# Altium schematic symbol library MCU_ST_STM32C0.SchLib: 57 symbols
Pins are listed as number, name and electrical type; pins without a type are passive.

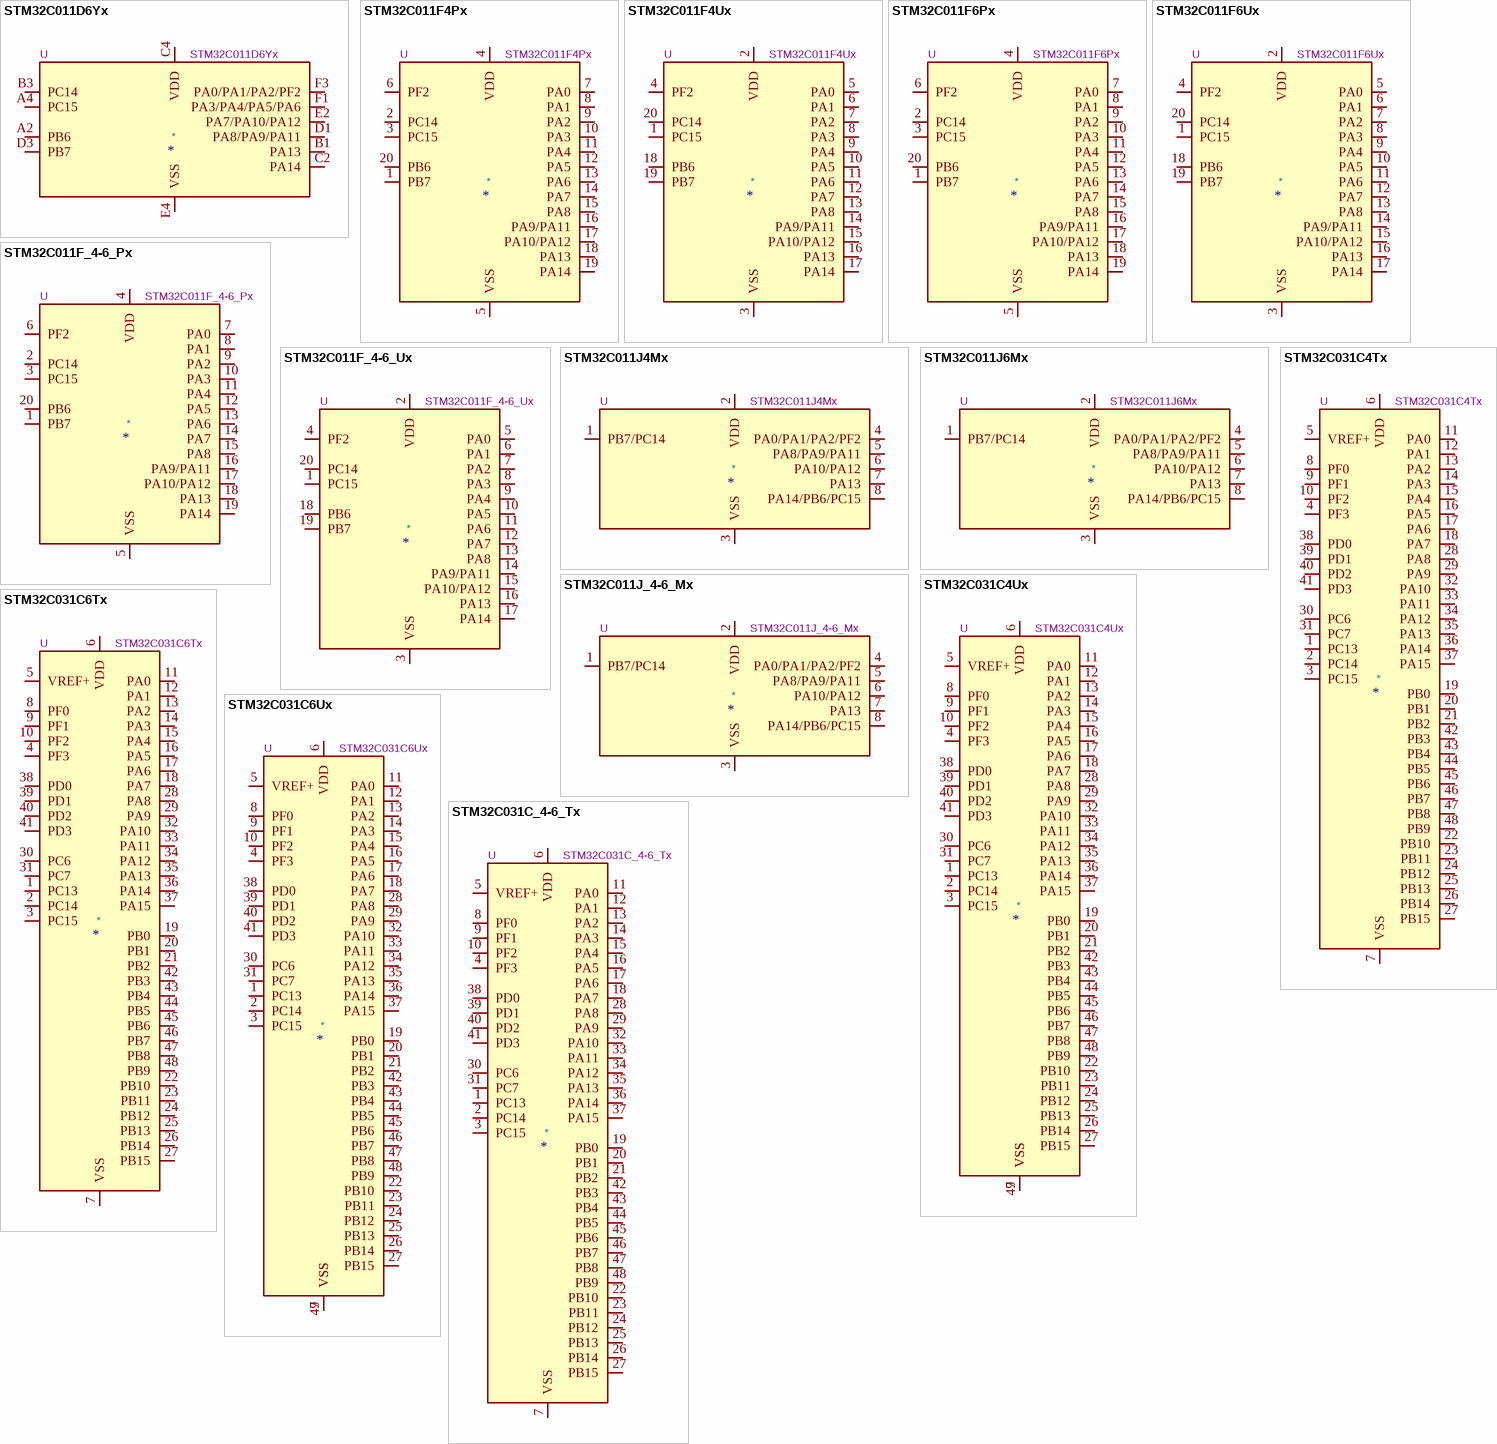
[diagram p0: symbols STM32C011D6Yx to STM32C031C_4-6_Tx]

## STM32C011D6Yx
designator *  value STM32C011D6Yx  Reference: U
STMicroelectronics Arm Cortex-M0+ MCU, 32KB flash, 6KB RAM, 48 MHz, 2.0-3.6V, 10 GPIO, WLCSP12; ki_keywords: Arm Cortex-M0+ STM32C0 STM32C0x1; ki_fp_filters: ST*WLCSP*1.7x1.42mm*Layout4x6*P0.35mm*Stagger*; Footprint: Package_CSP:ST_WLCSP-12_1.7x1.42mm_Layout4x6_P0.35mm_Stagger; Datasheet: https://www.st.com/resource/en/datasheet/stm32c011d6.pdf; Description_: STMicroelectronics Arm Cortex-M0+ MCU, 32KB flash, 6KB RAM, 48 MHz, 2.0-3.6V, 10 GPIO, WLCSP12
pins: A2 PB6, A4 PC15, B1 PA13, B3 PC14, C2 PA14, C4 VDD, D1 PA8/PA9/PA11, D3 PB7, E2 PA7/PA10/PA12, E4 VSS, F1 PA3/PA4/PA5/PA6, F3 PA0/PA1/PA2/PF2

## STM32C011F4Px
designator *  value STM32C011F4Px  Reference: U
STMicroelectronics Arm Cortex-M0+ MCU, 16KB flash, 6KB RAM, 48 MHz, 2.0-3.6V, 18 GPIO, TSSOP20; ki_keywords: Arm Cortex-M0+ STM32C0 STM32C0x1; ki_fp_filters: TSSOP*4.4x6.5mm*P0.65mm*; Footprint: Package_SO:TSSOP-20_4.4x6.5mm_P0.65mm; Datasheet: https://www.st.com/resource/en/datasheet/stm32c011f4.pdf; Description_: STMicroelectronics Arm Cortex-M0+ MCU, 16KB flash, 6KB RAM, 48 MHz, 2.0-3.6V, 18 GPIO, TSSOP20
pins: 1 PB7, 2 PC14, 3 PC15, 4 VDD, 5 VSS, 6 PF2, 7 PA0, 8 PA1, 9 PA2, 10 PA3, 11 PA4, 12 PA5, 13 PA6, 14 PA7, 15 PA8, 16 PA9/PA11, 17 PA10/PA12, 18 PA13, 19 PA14, 20 PB6

## STM32C011F4Ux
designator *  value STM32C011F4Ux  Reference: U
STMicroelectronics Arm Cortex-M0+ MCU, 16KB flash, 6KB RAM, 48 MHz, 2.0-3.6V, 18 GPIO, UFQFPN20; ki_keywords: Arm Cortex-M0+ STM32C0 STM32C0x1; ki_fp_filters: ST*UFQFPN*3x3mm*P0.5mm*; Footprint: Package_DFN_QFN:ST_UFQFPN-20_3x3mm_P0.5mm; Datasheet: https://www.st.com/resource/en/datasheet/stm32c011f4.pdf; Description_: STMicroelectronics Arm Cortex-M0+ MCU, 16KB flash, 6KB RAM, 48 MHz, 2.0-3.6V, 18 GPIO, UFQFPN20
pins: 1 PC15, 2 VDD, 3 VSS, 4 PF2, 5 PA0, 6 PA1, 7 PA2, 8 PA3, 9 PA4, 10 PA5, 11 PA6, 12 PA7, 13 PA8, 14 PA9/PA11, 15 PA10/PA12, 16 PA13, 17 PA14, 18 PB6, 19 PB7, 20 PC14

## STM32C011F6Px
designator *  value STM32C011F6Px  Reference: U
STMicroelectronics Arm Cortex-M0+ MCU, 32KB flash, 6KB RAM, 48 MHz, 2.0-3.6V, 18 GPIO, TSSOP20; ki_keywords: Arm Cortex-M0+ STM32C0 STM32C0x1; ki_fp_filters: TSSOP*4.4x6.5mm*P0.65mm*; Footprint: Package_SO:TSSOP-20_4.4x6.5mm_P0.65mm; Datasheet: https://www.st.com/resource/en/datasheet/stm32c011f6.pdf; Description_: STMicroelectronics Arm Cortex-M0+ MCU, 32KB flash, 6KB RAM, 48 MHz, 2.0-3.6V, 18 GPIO, TSSOP20
pins: 1 PB7, 2 PC14, 3 PC15, 4 VDD, 5 VSS, 6 PF2, 7 PA0, 8 PA1, 9 PA2, 10 PA3, 11 PA4, 12 PA5, 13 PA6, 14 PA7, 15 PA8, 16 PA9/PA11, 17 PA10/PA12, 18 PA13, 19 PA14, 20 PB6

## STM32C011F6Ux
designator *  value STM32C011F6Ux  Reference: U
STMicroelectronics Arm Cortex-M0+ MCU, 32KB flash, 6KB RAM, 48 MHz, 2.0-3.6V, 18 GPIO, UFQFPN20; ki_keywords: Arm Cortex-M0+ STM32C0 STM32C0x1; ki_fp_filters: ST*UFQFPN*3x3mm*P0.5mm*; Footprint: Package_DFN_QFN:ST_UFQFPN-20_3x3mm_P0.5mm; Datasheet: https://www.st.com/resource/en/datasheet/stm32c011f6.pdf; Description_: STMicroelectronics Arm Cortex-M0+ MCU, 32KB flash, 6KB RAM, 48 MHz, 2.0-3.6V, 18 GPIO, UFQFPN20
pins: 1 PC15, 2 VDD, 3 VSS, 4 PF2, 5 PA0, 6 PA1, 7 PA2, 8 PA3, 9 PA4, 10 PA5, 11 PA6, 12 PA7, 13 PA8, 14 PA9/PA11, 15 PA10/PA12, 16 PA13, 17 PA14, 18 PB6, 19 PB7, 20 PC14

## STM32C011F_4-6_Px
designator *  value STM32C011F_4-6_Px  Reference: U
STMicroelectronics Arm Cortex-M0+ MCU, 16-32KB flash, 6KB RAM, 48 MHz, 2.0-3.6V, 18 GPIO, TSSOP20; ki_keywords: Arm Cortex-M0+ STM32C0 STM32C0x1; ki_fp_filters: TSSOP*4.4x6.5mm*P0.65mm*; Footprint: Package_SO:TSSOP-20_4.4x6.5mm_P0.65mm; Datasheet: https://www.st.com/resource/en/datasheet/stm32c011f4.pdf; Description_: STMicroelectronics Arm Cortex-M0+ MCU, 16-32KB flash, 6KB RAM, 48 MHz, 2.0-3.6V, 18 GPIO, TSSOP20
pins: 1 PB7, 2 PC14, 3 PC15, 4 VDD, 5 VSS, 6 PF2, 7 PA0, 8 PA1, 9 PA2, 10 PA3, 11 PA4, 12 PA5, 13 PA6, 14 PA7, 15 PA8, 16 PA9/PA11, 17 PA10/PA12, 18 PA13, 19 PA14, 20 PB6

## STM32C011F_4-6_Ux
designator *  value STM32C011F_4-6_Ux  Reference: U
STMicroelectronics Arm Cortex-M0+ MCU, 16-32KB flash, 6KB RAM, 48 MHz, 2.0-3.6V, 18 GPIO, UFQFPN20; ki_keywords: Arm Cortex-M0+ STM32C0 STM32C0x1; ki_fp_filters: ST*UFQFPN*3x3mm*P0.5mm*; Footprint: Package_DFN_QFN:ST_UFQFPN-20_3x3mm_P0.5mm; Datasheet: https://www.st.com/resource/en/datasheet/stm32c011f4.pdf; Description_: STMicroelectronics Arm Cortex-M0+ MCU, 16-32KB flash, 6KB RAM, 48 MHz, 2.0-3.6V, 18 GPIO, UFQFPN20
pins: 1 PC15, 2 VDD, 3 VSS, 4 PF2, 5 PA0, 6 PA1, 7 PA2, 8 PA3, 9 PA4, 10 PA5, 11 PA6, 12 PA7, 13 PA8, 14 PA9/PA11, 15 PA10/PA12, 16 PA13, 17 PA14, 18 PB6, 19 PB7, 20 PC14

## STM32C011J4Mx
designator *  value STM32C011J4Mx  Reference: U
STMicroelectronics Arm Cortex-M0+ MCU, 16KB flash, 6KB RAM, 48 MHz, 2.0-3.6V, 6 GPIO, SO8N; ki_keywords: Arm Cortex-M0+ STM32C0 STM32C0x1; ki_fp_filters: SO*3.9x4.9mm*P1.27mm*; Footprint: Package_SO:SOIC-8_3.9x4.9mm_P1.27mm; Datasheet: https://www.st.com/resource/en/datasheet/stm32c011j4.pdf; Description_: STMicroelectronics Arm Cortex-M0+ MCU, 16KB flash, 6KB RAM, 48 MHz, 2.0-3.6V, 6 GPIO, SO8N
pins: 1 PB7/PC14, 2 VDD, 3 VSS, 4 PA0/PA1/PA2/PF2, 5 PA8/PA9/PA11, 6 PA10/PA12, 7 PA13, 8 PA14/PB6/PC15

## STM32C011J6Mx
designator *  value STM32C011J6Mx  Reference: U
STMicroelectronics Arm Cortex-M0+ MCU, 32KB flash, 6KB RAM, 48 MHz, 2.0-3.6V, 6 GPIO, SO8N; ki_keywords: Arm Cortex-M0+ STM32C0 STM32C0x1; ki_fp_filters: SO*3.9x4.9mm*P1.27mm*; Footprint: Package_SO:SOIC-8_3.9x4.9mm_P1.27mm; Datasheet: https://www.st.com/resource/en/datasheet/stm32c011j6.pdf; Description_: STMicroelectronics Arm Cortex-M0+ MCU, 32KB flash, 6KB RAM, 48 MHz, 2.0-3.6V, 6 GPIO, SO8N
pins: 1 PB7/PC14, 2 VDD, 3 VSS, 4 PA0/PA1/PA2/PF2, 5 PA8/PA9/PA11, 6 PA10/PA12, 7 PA13, 8 PA14/PB6/PC15

## STM32C011J_4-6_Mx
designator *  value STM32C011J_4-6_Mx  Reference: U
STMicroelectronics Arm Cortex-M0+ MCU, 16-32KB flash, 6KB RAM, 48 MHz, 2.0-3.6V, 6 GPIO, SO8N; ki_keywords: Arm Cortex-M0+ STM32C0 STM32C0x1; ki_fp_filters: SO*3.9x4.9mm*P1.27mm*; Footprint: Package_SO:SOIC-8_3.9x4.9mm_P1.27mm; Datasheet: https://www.st.com/resource/en/datasheet/stm32c011j4.pdf; Description_: STMicroelectronics Arm Cortex-M0+ MCU, 16-32KB flash, 6KB RAM, 48 MHz, 2.0-3.6V, 6 GPIO, SO8N
pins: 1 PB7/PC14, 2 VDD, 3 VSS, 4 PA0/PA1/PA2/PF2, 5 PA8/PA9/PA11, 6 PA10/PA12, 7 PA13, 8 PA14/PB6/PC15

## STM32C031C4Tx
designator *  value STM32C031C4Tx  Reference: U
STMicroelectronics Arm Cortex-M0+ MCU, 16KB flash, 12KB RAM, 48 MHz, 2.0-3.6V, 45 GPIO, LQFP48; ki_keywords: Arm Cortex-M0+ STM32C0 STM32C0x1; ki_fp_filters: LQFP*7x7mm*P0.5mm*; Footprint: Package_QFP:LQFP-48_7x7mm_P0.5mm; Datasheet: https://www.st.com/resource/en/datasheet/stm32c031c4.pdf; Description_: STMicroelectronics Arm Cortex-M0+ MCU, 16KB flash, 12KB RAM, 48 MHz, 2.0-3.6V, 45 GPIO, LQFP48
pins: 1 PC13, 2 PC14, 3 PC15, 4 PF3, 5 VREF+, 6 VDD, 7 VSS, 8 PF0, 9 PF1, 10 PF2, 11 PA0, 12 PA1, 13 PA2, 14 PA3, 15 PA4, 16 PA5, 17 PA6, 18 PA7, 19 PB0, 20 PB1, 21 PB2, 22 PB10, 23 PB11, 24 PB12, 25 PB13, 26 PB14, 27 PB15, 28 PA8, 29 PA9, 30 PC6, 31 PC7, 32 PA10, 33 PA11, 34 PA12, 35 PA13, 36 PA14, 37 PA15, 38 PD0, 39 PD1, 40 PD2, 41 PD3, 42 PB3, 43 PB4, 44 PB5, 45 PB6, 46 PB7, 47 PB8, 48 PB9

## STM32C031C4Ux
designator *  value STM32C031C4Ux  Reference: U
STMicroelectronics Arm Cortex-M0+ MCU, 16KB flash, 12KB RAM, 48 MHz, 2.0-3.6V, 45 GPIO, UFQFPN48; ki_keywords: Arm Cortex-M0+ STM32C0 STM32C0x1; ki_fp_filters: QFN*1EP*7x7mm*P0.5mm*; Footprint: Package_DFN_QFN:QFN-48-1EP_7x7mm_P0.5mm_EP5.6x5.6mm; Datasheet: https://www.st.com/resource/en/datasheet/stm32c031c4.pdf; Description_: STMicroelectronics Arm Cortex-M0+ MCU, 16KB flash, 12KB RAM, 48 MHz, 2.0-3.6V, 45 GPIO, UFQFPN48
pins: 1 PC13, 2 PC14, 3 PC15, 4 PF3, 5 VREF+, 6 VDD, 7 VSS, 8 PF0, 9 PF1, 10 PF2, 11 PA0, 12 PA1, 13 PA2, 14 PA3, 15 PA4, 16 PA5, 17 PA6, 18 PA7, 19 PB0, 20 PB1, 21 PB2, 22 PB10, 23 PB11, 24 PB12, 25 PB13, 26 PB14, 27 PB15, 28 PA8, 29 PA9, 30 PC6, 31 PC7, 32 PA10, 33 PA11, 34 PA12, 35 PA13, 36 PA14, 37 PA15, 38 PD0, 39 PD1, 40 PD2, 41 PD3, 42 PB3, 43 PB4, 44 PB5, 45 PB6, 46 PB7, 47 PB8, 48 PB9, 49 VSS

## STM32C031C6Tx
designator *  value STM32C031C6Tx  Reference: U
STMicroelectronics Arm Cortex-M0+ MCU, 32KB flash, 12KB RAM, 48 MHz, 2.0-3.6V, 45 GPIO, LQFP48; ki_keywords: Arm Cortex-M0+ STM32C0 STM32C0x1; ki_fp_filters: LQFP*7x7mm*P0.5mm*; Footprint: Package_QFP:LQFP-48_7x7mm_P0.5mm; Datasheet: https://www.st.com/resource/en/datasheet/stm32c031c6.pdf; Description_: STMicroelectronics Arm Cortex-M0+ MCU, 32KB flash, 12KB RAM, 48 MHz, 2.0-3.6V, 45 GPIO, LQFP48
pins: 1 PC13, 2 PC14, 3 PC15, 4 PF3, 5 VREF+, 6 VDD, 7 VSS, 8 PF0, 9 PF1, 10 PF2, 11 PA0, 12 PA1, 13 PA2, 14 PA3, 15 PA4, 16 PA5, 17 PA6, 18 PA7, 19 PB0, 20 PB1, 21 PB2, 22 PB10, 23 PB11, 24 PB12, 25 PB13, 26 PB14, 27 PB15, 28 PA8, 29 PA9, 30 PC6, 31 PC7, 32 PA10, 33 PA11, 34 PA12, 35 PA13, 36 PA14, 37 PA15, 38 PD0, 39 PD1, 40 PD2, 41 PD3, 42 PB3, 43 PB4, 44 PB5, 45 PB6, 46 PB7, 47 PB8, 48 PB9

## STM32C031C6Ux
designator *  value STM32C031C6Ux  Reference: U
STMicroelectronics Arm Cortex-M0+ MCU, 32KB flash, 12KB RAM, 48 MHz, 2.0-3.6V, 45 GPIO, UFQFPN48; ki_keywords: Arm Cortex-M0+ STM32C0 STM32C0x1; ki_fp_filters: QFN*1EP*7x7mm*P0.5mm*; Footprint: Package_DFN_QFN:QFN-48-1EP_7x7mm_P0.5mm_EP5.6x5.6mm; Datasheet: https://www.st.com/resource/en/datasheet/stm32c031c6.pdf; Description_: STMicroelectronics Arm Cortex-M0+ MCU, 32KB flash, 12KB RAM, 48 MHz, 2.0-3.6V, 45 GPIO, UFQFPN48
pins: 1 PC13, 2 PC14, 3 PC15, 4 PF3, 5 VREF+, 6 VDD, 7 VSS, 8 PF0, 9 PF1, 10 PF2, 11 PA0, 12 PA1, 13 PA2, 14 PA3, 15 PA4, 16 PA5, 17 PA6, 18 PA7, 19 PB0, 20 PB1, 21 PB2, 22 PB10, 23 PB11, 24 PB12, 25 PB13, 26 PB14, 27 PB15, 28 PA8, 29 PA9, 30 PC6, 31 PC7, 32 PA10, 33 PA11, 34 PA12, 35 PA13, 36 PA14, 37 PA15, 38 PD0, 39 PD1, 40 PD2, 41 PD3, 42 PB3, 43 PB4, 44 PB5, 45 PB6, 46 PB7, 47 PB8, 48 PB9, 49 VSS

## STM32C031C_4-6_Tx
designator *  value STM32C031C_4-6_Tx  Reference: U
STMicroelectronics Arm Cortex-M0+ MCU, 16-32KB flash, 12KB RAM, 48 MHz, 2.0-3.6V, 45 GPIO, LQFP48; ki_keywords: Arm Cortex-M0+ STM32C0 STM32C0x1; ki_fp_filters: LQFP*7x7mm*P0.5mm*; Footprint: Package_QFP:LQFP-48_7x7mm_P0.5mm; Datasheet: https://www.st.com/resource/en/datasheet/stm32c031c4.pdf; Description_: STMicroelectronics Arm Cortex-M0+ MCU, 16-32KB flash, 12KB RAM, 48 MHz, 2.0-3.6V, 45 GPIO, LQFP48
pins: 1 PC13, 2 PC14, 3 PC15, 4 PF3, 5 VREF+, 6 VDD, 7 VSS, 8 PF0, 9 PF1, 10 PF2, 11 PA0, 12 PA1, 13 PA2, 14 PA3, 15 PA4, 16 PA5, 17 PA6, 18 PA7, 19 PB0, 20 PB1, 21 PB2, 22 PB10, 23 PB11, 24 PB12, 25 PB13, 26 PB14, 27 PB15, 28 PA8, 29 PA9, 30 PC6, 31 PC7, 32 PA10, 33 PA11, 34 PA12, 35 PA13, 36 PA14, 37 PA15, 38 PD0, 39 PD1, 40 PD2, 41 PD3, 42 PB3, 43 PB4, 44 PB5, 45 PB6, 46 PB7, 47 PB8, 48 PB9

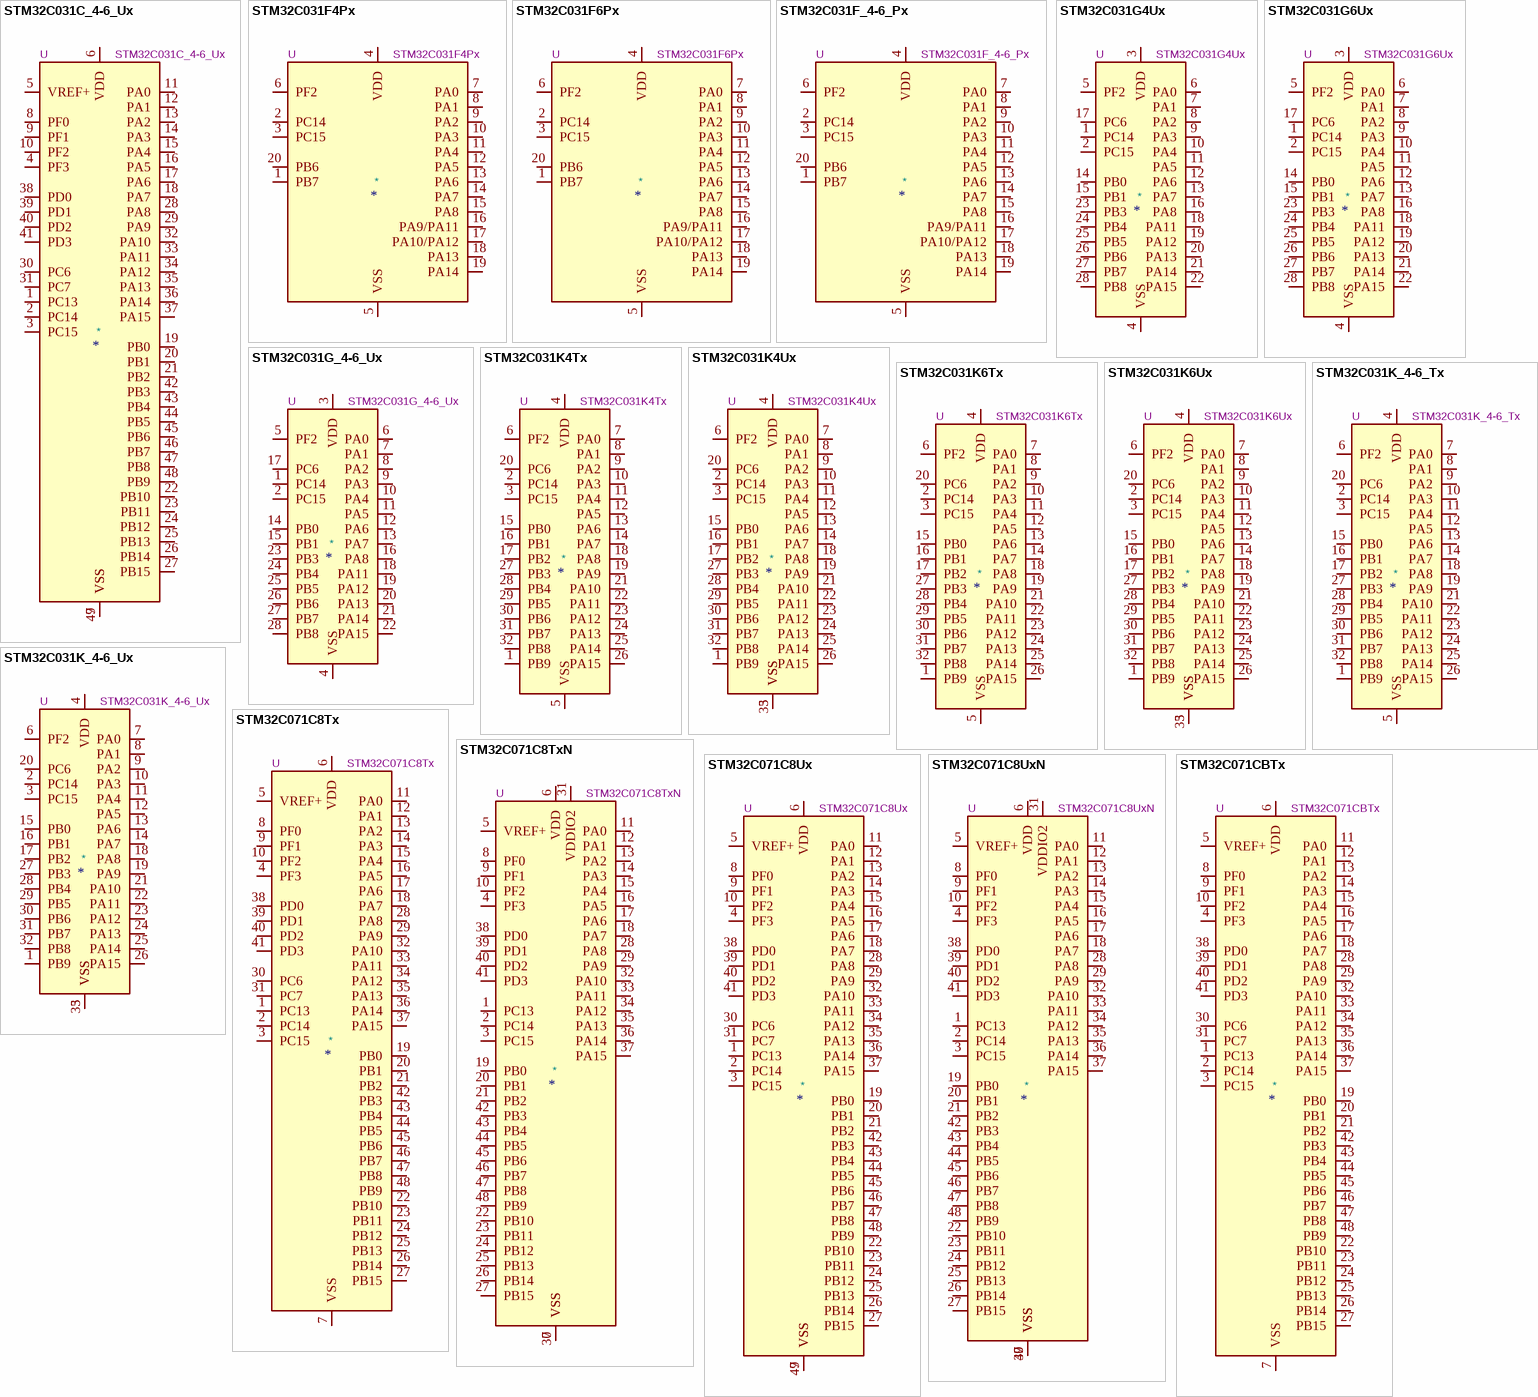
[diagram p1: symbols STM32C031C_4-6_Ux to STM32C071CBTx]

## STM32C031C_4-6_Ux
designator *  value STM32C031C_4-6_Ux  Reference: U
STMicroelectronics Arm Cortex-M0+ MCU, 16-32KB flash, 12KB RAM, 48 MHz, 2.0-3.6V, 45 GPIO, UFQFPN48; ki_keywords: Arm Cortex-M0+ STM32C0 STM32C0x1; ki_fp_filters: QFN*1EP*7x7mm*P0.5mm*; Footprint: Package_DFN_QFN:QFN-48-1EP_7x7mm_P0.5mm_EP5.6x5.6mm; Datasheet: https://www.st.com/resource/en/datasheet/stm32c031c4.pdf; Description_: STMicroelectronics Arm Cortex-M0+ MCU, 16-32KB flash, 12KB RAM, 48 MHz, 2.0-3.6V, 45 GPIO, UFQFPN48
pins: 1 PC13, 2 PC14, 3 PC15, 4 PF3, 5 VREF+, 6 VDD, 7 VSS, 8 PF0, 9 PF1, 10 PF2, 11 PA0, 12 PA1, 13 PA2, 14 PA3, 15 PA4, 16 PA5, 17 PA6, 18 PA7, 19 PB0, 20 PB1, 21 PB2, 22 PB10, 23 PB11, 24 PB12, 25 PB13, 26 PB14, 27 PB15, 28 PA8, 29 PA9, 30 PC6, 31 PC7, 32 PA10, 33 PA11, 34 PA12, 35 PA13, 36 PA14, 37 PA15, 38 PD0, 39 PD1, 40 PD2, 41 PD3, 42 PB3, 43 PB4, 44 PB5, 45 PB6, 46 PB7, 47 PB8, 48 PB9, 49 VSS

## STM32C031F4Px
designator *  value STM32C031F4Px  Reference: U
STMicroelectronics Arm Cortex-M0+ MCU, 16KB flash, 12KB RAM, 48 MHz, 2.0-3.6V, 18 GPIO, TSSOP20; ki_keywords: Arm Cortex-M0+ STM32C0 STM32C0x1; ki_fp_filters: TSSOP*4.4x6.5mm*P0.65mm*; Footprint: Package_SO:TSSOP-20_4.4x6.5mm_P0.65mm; Datasheet: https://www.st.com/resource/en/datasheet/stm32c031f4.pdf; Description_: STMicroelectronics Arm Cortex-M0+ MCU, 16KB flash, 12KB RAM, 48 MHz, 2.0-3.6V, 18 GPIO, TSSOP20
pins: 1 PB7, 2 PC14, 3 PC15, 4 VDD, 5 VSS, 6 PF2, 7 PA0, 8 PA1, 9 PA2, 10 PA3, 11 PA4, 12 PA5, 13 PA6, 14 PA7, 15 PA8, 16 PA9/PA11, 17 PA10/PA12, 18 PA13, 19 PA14, 20 PB6

## STM32C031F6Px
designator *  value STM32C031F6Px  Reference: U
STMicroelectronics Arm Cortex-M0+ MCU, 32KB flash, 12KB RAM, 48 MHz, 2.0-3.6V, 18 GPIO, TSSOP20; ki_keywords: Arm Cortex-M0+ STM32C0 STM32C0x1; ki_fp_filters: TSSOP*4.4x6.5mm*P0.65mm*; Footprint: Package_SO:TSSOP-20_4.4x6.5mm_P0.65mm; Datasheet: https://www.st.com/resource/en/datasheet/stm32c031f6.pdf; Description_: STMicroelectronics Arm Cortex-M0+ MCU, 32KB flash, 12KB RAM, 48 MHz, 2.0-3.6V, 18 GPIO, TSSOP20
pins: 1 PB7, 2 PC14, 3 PC15, 4 VDD, 5 VSS, 6 PF2, 7 PA0, 8 PA1, 9 PA2, 10 PA3, 11 PA4, 12 PA5, 13 PA6, 14 PA7, 15 PA8, 16 PA9/PA11, 17 PA10/PA12, 18 PA13, 19 PA14, 20 PB6

## STM32C031F_4-6_Px
designator *  value STM32C031F_4-6_Px  Reference: U
STMicroelectronics Arm Cortex-M0+ MCU, 16-32KB flash, 12KB RAM, 48 MHz, 2.0-3.6V, 18 GPIO, TSSOP20; ki_keywords: Arm Cortex-M0+ STM32C0 STM32C0x1; ki_fp_filters: TSSOP*4.4x6.5mm*P0.65mm*; Footprint: Package_SO:TSSOP-20_4.4x6.5mm_P0.65mm; Datasheet: https://www.st.com/resource/en/datasheet/stm32c031f4.pdf; Description_: STMicroelectronics Arm Cortex-M0+ MCU, 16-32KB flash, 12KB RAM, 48 MHz, 2.0-3.6V, 18 GPIO, TSSOP20
pins: 1 PB7, 2 PC14, 3 PC15, 4 VDD, 5 VSS, 6 PF2, 7 PA0, 8 PA1, 9 PA2, 10 PA3, 11 PA4, 12 PA5, 13 PA6, 14 PA7, 15 PA8, 16 PA9/PA11, 17 PA10/PA12, 18 PA13, 19 PA14, 20 PB6

## STM32C031G4Ux
designator *  value STM32C031G4Ux  Reference: U
STMicroelectronics Arm Cortex-M0+ MCU, 16KB flash, 12KB RAM, 48 MHz, 2.0-3.6V, 26 GPIO, UFQFPN28; ki_keywords: Arm Cortex-M0+ STM32C0 STM32C0x1; ki_fp_filters: QFN*4x4mm*P0.5mm*; Footprint: Package_DFN_QFN:QFN-28_4x4mm_P0.5mm; Datasheet: https://www.st.com/resource/en/datasheet/stm32c031g4.pdf; Description_: STMicroelectronics Arm Cortex-M0+ MCU, 16KB flash, 12KB RAM, 48 MHz, 2.0-3.6V, 26 GPIO, UFQFPN28
pins: 1 PC14, 2 PC15, 3 VDD, 4 VSS, 5 PF2, 6 PA0, 7 PA1, 8 PA2, 9 PA3, 10 PA4, 11 PA5, 12 PA6, 13 PA7, 14 PB0, 15 PB1, 16 PA8, 17 PC6, 18 PA11, 19 PA12, 20 PA13, 21 PA14, 22 PA15, 23 PB3, 24 PB4, 25 PB5, 26 PB6, 27 PB7, 28 PB8

## STM32C031G6Ux
designator *  value STM32C031G6Ux  Reference: U
STMicroelectronics Arm Cortex-M0+ MCU, 32KB flash, 12KB RAM, 48 MHz, 2.0-3.6V, 26 GPIO, UFQFPN28; ki_keywords: Arm Cortex-M0+ STM32C0 STM32C0x1; ki_fp_filters: QFN*4x4mm*P0.5mm*; Footprint: Package_DFN_QFN:QFN-28_4x4mm_P0.5mm; Datasheet: https://www.st.com/resource/en/datasheet/stm32c031g6.pdf; Description_: STMicroelectronics Arm Cortex-M0+ MCU, 32KB flash, 12KB RAM, 48 MHz, 2.0-3.6V, 26 GPIO, UFQFPN28
pins: 1 PC14, 2 PC15, 3 VDD, 4 VSS, 5 PF2, 6 PA0, 7 PA1, 8 PA2, 9 PA3, 10 PA4, 11 PA5, 12 PA6, 13 PA7, 14 PB0, 15 PB1, 16 PA8, 17 PC6, 18 PA11, 19 PA12, 20 PA13, 21 PA14, 22 PA15, 23 PB3, 24 PB4, 25 PB5, 26 PB6, 27 PB7, 28 PB8

## STM32C031G_4-6_Ux
designator *  value STM32C031G_4-6_Ux  Reference: U
STMicroelectronics Arm Cortex-M0+ MCU, 16-32KB flash, 12KB RAM, 48 MHz, 2.0-3.6V, 26 GPIO, UFQFPN28; ki_keywords: Arm Cortex-M0+ STM32C0 STM32C0x1; ki_fp_filters: QFN*4x4mm*P0.5mm*; Footprint: Package_DFN_QFN:QFN-28_4x4mm_P0.5mm; Datasheet: https://www.st.com/resource/en/datasheet/stm32c031g4.pdf; Description_: STMicroelectronics Arm Cortex-M0+ MCU, 16-32KB flash, 12KB RAM, 48 MHz, 2.0-3.6V, 26 GPIO, UFQFPN28
pins: 1 PC14, 2 PC15, 3 VDD, 4 VSS, 5 PF2, 6 PA0, 7 PA1, 8 PA2, 9 PA3, 10 PA4, 11 PA5, 12 PA6, 13 PA7, 14 PB0, 15 PB1, 16 PA8, 17 PC6, 18 PA11, 19 PA12, 20 PA13, 21 PA14, 22 PA15, 23 PB3, 24 PB4, 25 PB5, 26 PB6, 27 PB7, 28 PB8

## STM32C031K4Tx
designator *  value STM32C031K4Tx  Reference: U
STMicroelectronics Arm Cortex-M0+ MCU, 16KB flash, 12KB RAM, 48 MHz, 2.0-3.6V, 30 GPIO, LQFP32; ki_keywords: Arm Cortex-M0+ STM32C0 STM32C0x1; ki_fp_filters: LQFP*7x7mm*P0.8mm*; Footprint: Package_QFP:LQFP-32_7x7mm_P0.8mm; Datasheet: https://www.st.com/resource/en/datasheet/stm32c031k4.pdf; Description_: STMicroelectronics Arm Cortex-M0+ MCU, 16KB flash, 12KB RAM, 48 MHz, 2.0-3.6V, 30 GPIO, LQFP32
pins: 1 PB9, 2 PC14, 3 PC15, 4 VDD, 5 VSS, 6 PF2, 7 PA0, 8 PA1, 9 PA2, 10 PA3, 11 PA4, 12 PA5, 13 PA6, 14 PA7, 15 PB0, 16 PB1, 17 PB2, 18 PA8, 19 PA9, 20 PC6, 21 PA10, 22 PA11, 23 PA12, 24 PA13, 25 PA14, 26 PA15, 27 PB3, 28 PB4, 29 PB5, 30 PB6, 31 PB7, 32 PB8

## STM32C031K4Ux
designator *  value STM32C031K4Ux  Reference: U
STMicroelectronics Arm Cortex-M0+ MCU, 16KB flash, 12KB RAM, 48 MHz, 2.0-3.6V, 30 GPIO, UFQFPN32; ki_keywords: Arm Cortex-M0+ STM32C0 STM32C0x1; ki_fp_filters: QFN*1EP*5x5mm*P0.5mm*; Footprint: Package_DFN_QFN:QFN-32-1EP_5x5mm_P0.5mm_EP3.45x3.45mm; Datasheet: https://www.st.com/resource/en/datasheet/stm32c031k4.pdf; Description_: STMicroelectronics Arm Cortex-M0+ MCU, 16KB flash, 12KB RAM, 48 MHz, 2.0-3.6V, 30 GPIO, UFQFPN32
pins: 1 PB9, 2 PC14, 3 PC15, 4 VDD, 5 VSS, 6 PF2, 7 PA0, 8 PA1, 9 PA2, 10 PA3, 11 PA4, 12 PA5, 13 PA6, 14 PA7, 15 PB0, 16 PB1, 17 PB2, 18 PA8, 19 PA9, 20 PC6, 21 PA10, 22 PA11, 23 PA12, 24 PA13, 25 PA14, 26 PA15, 27 PB3, 28 PB4, 29 PB5, 30 PB6, 31 PB7, 32 PB8, 33 VSS

## STM32C031K6Tx
designator *  value STM32C031K6Tx  Reference: U
STMicroelectronics Arm Cortex-M0+ MCU, 32KB flash, 12KB RAM, 48 MHz, 2.0-3.6V, 30 GPIO, LQFP32; ki_keywords: Arm Cortex-M0+ STM32C0 STM32C0x1; ki_fp_filters: LQFP*7x7mm*P0.8mm*; Footprint: Package_QFP:LQFP-32_7x7mm_P0.8mm; Datasheet: https://www.st.com/resource/en/datasheet/stm32c031k6.pdf; Description_: STMicroelectronics Arm Cortex-M0+ MCU, 32KB flash, 12KB RAM, 48 MHz, 2.0-3.6V, 30 GPIO, LQFP32
pins: 1 PB9, 2 PC14, 3 PC15, 4 VDD, 5 VSS, 6 PF2, 7 PA0, 8 PA1, 9 PA2, 10 PA3, 11 PA4, 12 PA5, 13 PA6, 14 PA7, 15 PB0, 16 PB1, 17 PB2, 18 PA8, 19 PA9, 20 PC6, 21 PA10, 22 PA11, 23 PA12, 24 PA13, 25 PA14, 26 PA15, 27 PB3, 28 PB4, 29 PB5, 30 PB6, 31 PB7, 32 PB8

## STM32C031K6Ux
designator *  value STM32C031K6Ux  Reference: U
STMicroelectronics Arm Cortex-M0+ MCU, 32KB flash, 12KB RAM, 48 MHz, 2.0-3.6V, 30 GPIO, UFQFPN32; ki_keywords: Arm Cortex-M0+ STM32C0 STM32C0x1; ki_fp_filters: QFN*1EP*5x5mm*P0.5mm*; Footprint: Package_DFN_QFN:QFN-32-1EP_5x5mm_P0.5mm_EP3.45x3.45mm; Datasheet: https://www.st.com/resource/en/datasheet/stm32c031k6.pdf; Description_: STMicroelectronics Arm Cortex-M0+ MCU, 32KB flash, 12KB RAM, 48 MHz, 2.0-3.6V, 30 GPIO, UFQFPN32
pins: 1 PB9, 2 PC14, 3 PC15, 4 VDD, 5 VSS, 6 PF2, 7 PA0, 8 PA1, 9 PA2, 10 PA3, 11 PA4, 12 PA5, 13 PA6, 14 PA7, 15 PB0, 16 PB1, 17 PB2, 18 PA8, 19 PA9, 20 PC6, 21 PA10, 22 PA11, 23 PA12, 24 PA13, 25 PA14, 26 PA15, 27 PB3, 28 PB4, 29 PB5, 30 PB6, 31 PB7, 32 PB8, 33 VSS

## STM32C031K_4-6_Tx
designator *  value STM32C031K_4-6_Tx  Reference: U
STMicroelectronics Arm Cortex-M0+ MCU, 16-32KB flash, 12KB RAM, 48 MHz, 2.0-3.6V, 30 GPIO, LQFP32; ki_keywords: Arm Cortex-M0+ STM32C0 STM32C0x1; ki_fp_filters: LQFP*7x7mm*P0.8mm*; Footprint: Package_QFP:LQFP-32_7x7mm_P0.8mm; Datasheet: https://www.st.com/resource/en/datasheet/stm32c031k4.pdf; Description_: STMicroelectronics Arm Cortex-M0+ MCU, 16-32KB flash, 12KB RAM, 48 MHz, 2.0-3.6V, 30 GPIO, LQFP32
pins: 1 PB9, 2 PC14, 3 PC15, 4 VDD, 5 VSS, 6 PF2, 7 PA0, 8 PA1, 9 PA2, 10 PA3, 11 PA4, 12 PA5, 13 PA6, 14 PA7, 15 PB0, 16 PB1, 17 PB2, 18 PA8, 19 PA9, 20 PC6, 21 PA10, 22 PA11, 23 PA12, 24 PA13, 25 PA14, 26 PA15, 27 PB3, 28 PB4, 29 PB5, 30 PB6, 31 PB7, 32 PB8

## STM32C031K_4-6_Ux
designator *  value STM32C031K_4-6_Ux  Reference: U
STMicroelectronics Arm Cortex-M0+ MCU, 16-32KB flash, 12KB RAM, 48 MHz, 2.0-3.6V, 30 GPIO, UFQFPN32; ki_keywords: Arm Cortex-M0+ STM32C0 STM32C0x1; ki_fp_filters: QFN*1EP*5x5mm*P0.5mm*; Footprint: Package_DFN_QFN:QFN-32-1EP_5x5mm_P0.5mm_EP3.45x3.45mm; Datasheet: https://www.st.com/resource/en/datasheet/stm32c031k4.pdf; Description_: STMicroelectronics Arm Cortex-M0+ MCU, 16-32KB flash, 12KB RAM, 48 MHz, 2.0-3.6V, 30 GPIO, UFQFPN32
pins: 1 PB9, 2 PC14, 3 PC15, 4 VDD, 5 VSS, 6 PF2, 7 PA0, 8 PA1, 9 PA2, 10 PA3, 11 PA4, 12 PA5, 13 PA6, 14 PA7, 15 PB0, 16 PB1, 17 PB2, 18 PA8, 19 PA9, 20 PC6, 21 PA10, 22 PA11, 23 PA12, 24 PA13, 25 PA14, 26 PA15, 27 PB3, 28 PB4, 29 PB5, 30 PB6, 31 PB7, 32 PB8, 33 VSS

## STM32C071C8Tx
designator *  value STM32C071C8Tx  Reference: U
STMicroelectronics Arm Cortex-M0+ MCU, 64KB flash, 24KB RAM, 45 GPIO, LQFP48_GP; ki_keywords: Arm Cortex-M0+ STM32C0 STM32C0x1; ki_fp_filters: LQFP*7x7mm*P0.5mm*; Footprint: Package_QFP:LQFP-48_7x7mm_P0.5mm; Datasheet: https://www.st.com/resource/en/datasheet/stm32c071c8.pdf; Description_: STMicroelectronics Arm Cortex-M0+ MCU, 64KB flash, 24KB RAM, 45 GPIO, LQFP48_GP
pins: 1 PC13, 2 PC14, 3 PC15, 4 PF3, 5 VREF+, 6 VDD, 7 VSS, 8 PF0, 9 PF1, 10 PF2, 11 PA0, 12 PA1, 13 PA2, 14 PA3, 15 PA4, 16 PA5, 17 PA6, 18 PA7, 19 PB0, 20 PB1, 21 PB2, 22 PB10, 23 PB11, 24 PB12, 25 PB13, 26 PB14, 27 PB15, 28 PA8, 29 PA9, 30 PC6, 31 PC7, 32 PA10, 33 PA11, 34 PA12, 35 PA13, 36 PA14, 37 PA15, 38 PD0, 39 PD1, 40 PD2, 41 PD3, 42 PB3, 43 PB4, 44 PB5, 45 PB6, 46 PB7, 47 PB8, 48 PB9

## STM32C071C8TxN
designator *  value STM32C071C8TxN  Reference: U
STMicroelectronics Arm Cortex-M0+ MCU, 64KB flash, 24KB RAM, 43 GPIO, LQFP48_N; ki_keywords: Arm Cortex-M0+ STM32C0 STM32C0x1; ki_fp_filters: LQFP*7x7mm*P0.5mm*; Footprint: Package_QFP:LQFP-48_7x7mm_P0.5mm; Datasheet: https://www.st.com/resource/en/datasheet/stm32c071c8.pdf; Description_: STMicroelectronics Arm Cortex-M0+ MCU, 64KB flash, 24KB RAM, 43 GPIO, LQFP48_N
pins: 1 PC13, 2 PC14, 3 PC15, 4 PF3, 5 VREF+, 6 VDD, 7 VSS, 8 PF0, 9 PF1, 10 PF2, 11 PA0, 12 PA1, 13 PA2, 14 PA3, 15 PA4, 16 PA5, 17 PA6, 18 PA7, 19 PB0, 20 PB1, 21 PB2, 22 PB10, 23 PB11, 24 PB12, 25 PB13, 26 PB14, 27 PB15, 28 PA8, 29 PA9, 30 VSS, 31 VDDIO2, 32 PA10, 33 PA11, 34 PA12, 35 PA13, 36 PA14, 37 PA15, 38 PD0, 39 PD1, 40 PD2, 41 PD3, 42 PB3, 43 PB4, 44 PB5, 45 PB6, 46 PB7, 47 PB8, 48 PB9

## STM32C071C8Ux
designator *  value STM32C071C8Ux  Reference: U
STMicroelectronics Arm Cortex-M0+ MCU, 64KB flash, 24KB RAM, 45 GPIO, UFQFPN48_GP; ki_keywords: Arm Cortex-M0+ STM32C0 STM32C0x1; ki_fp_filters: QFN*1EP*7x7mm*P0.5mm*; Footprint: Package_DFN_QFN:QFN-48-1EP_7x7mm_P0.5mm_EP5.6x5.6mm; Datasheet: https://www.st.com/resource/en/datasheet/stm32c071c8.pdf; Description_: STMicroelectronics Arm Cortex-M0+ MCU, 64KB flash, 24KB RAM, 45 GPIO, UFQFPN48_GP
pins: 1 PC13, 2 PC14, 3 PC15, 4 PF3, 5 VREF+, 6 VDD, 7 VSS, 8 PF0, 9 PF1, 10 PF2, 11 PA0, 12 PA1, 13 PA2, 14 PA3, 15 PA4, 16 PA5, 17 PA6, 18 PA7, 19 PB0, 20 PB1, 21 PB2, 22 PB10, 23 PB11, 24 PB12, 25 PB13, 26 PB14, 27 PB15, 28 PA8, 29 PA9, 30 PC6, 31 PC7, 32 PA10, 33 PA11, 34 PA12, 35 PA13, 36 PA14, 37 PA15, 38 PD0, 39 PD1, 40 PD2, 41 PD3, 42 PB3, 43 PB4, 44 PB5, 45 PB6, 46 PB7, 47 PB8, 48 PB9, 49 VSS

## STM32C071C8UxN
designator *  value STM32C071C8UxN  Reference: U
STMicroelectronics Arm Cortex-M0+ MCU, 64KB flash, 24KB RAM, 43 GPIO, UFQFPN48_N; ki_keywords: Arm Cortex-M0+ STM32C0 STM32C0x1; ki_fp_filters: QFN*1EP*7x7mm*P0.5mm*; Footprint: Package_DFN_QFN:QFN-48-1EP_7x7mm_P0.5mm_EP5.6x5.6mm; Datasheet: https://www.st.com/resource/en/datasheet/stm32c071c8.pdf; Description_: STMicroelectronics Arm Cortex-M0+ MCU, 64KB flash, 24KB RAM, 43 GPIO, UFQFPN48_N
pins: 1 PC13, 2 PC14, 3 PC15, 4 PF3, 5 VREF+, 6 VDD, 7 VSS, 8 PF0, 9 PF1, 10 PF2, 11 PA0, 12 PA1, 13 PA2, 14 PA3, 15 PA4, 16 PA5, 17 PA6, 18 PA7, 19 PB0, 20 PB1, 21 PB2, 22 PB10, 23 PB11, 24 PB12, 25 PB13, 26 PB14, 27 PB15, 28 PA8, 29 PA9, 30 VSS, 31 VDDIO2, 32 PA10, 33 PA11, 34 PA12, 35 PA13, 36 PA14, 37 PA15, 38 PD0, 39 PD1, 40 PD2, 41 PD3, 42 PB3, 43 PB4, 44 PB5, 45 PB6, 46 PB7, 47 PB8, 48 PB9, 49 VSS

## STM32C071CBTx
designator *  value STM32C071CBTx  Reference: U
STMicroelectronics Arm Cortex-M0+ MCU, 128KB flash, 24KB RAM, 45 GPIO, LQFP48_GP; ki_keywords: Arm Cortex-M0+ STM32C0 STM32C0x1; ki_fp_filters: LQFP*7x7mm*P0.5mm*; Footprint: Package_QFP:LQFP-48_7x7mm_P0.5mm; Datasheet: https://www.st.com/resource/en/datasheet/stm32c071cb.pdf; Description_: STMicroelectronics Arm Cortex-M0+ MCU, 128KB flash, 24KB RAM, 45 GPIO, LQFP48_GP
pins: 1 PC13, 2 PC14, 3 PC15, 4 PF3, 5 VREF+, 6 VDD, 7 VSS, 8 PF0, 9 PF1, 10 PF2, 11 PA0, 12 PA1, 13 PA2, 14 PA3, 15 PA4, 16 PA5, 17 PA6, 18 PA7, 19 PB0, 20 PB1, 21 PB2, 22 PB10, 23 PB11, 24 PB12, 25 PB13, 26 PB14, 27 PB15, 28 PA8, 29 PA9, 30 PC6, 31 PC7, 32 PA10, 33 PA11, 34 PA12, 35 PA13, 36 PA14, 37 PA15, 38 PD0, 39 PD1, 40 PD2, 41 PD3, 42 PB3, 43 PB4, 44 PB5, 45 PB6, 46 PB7, 47 PB8, 48 PB9

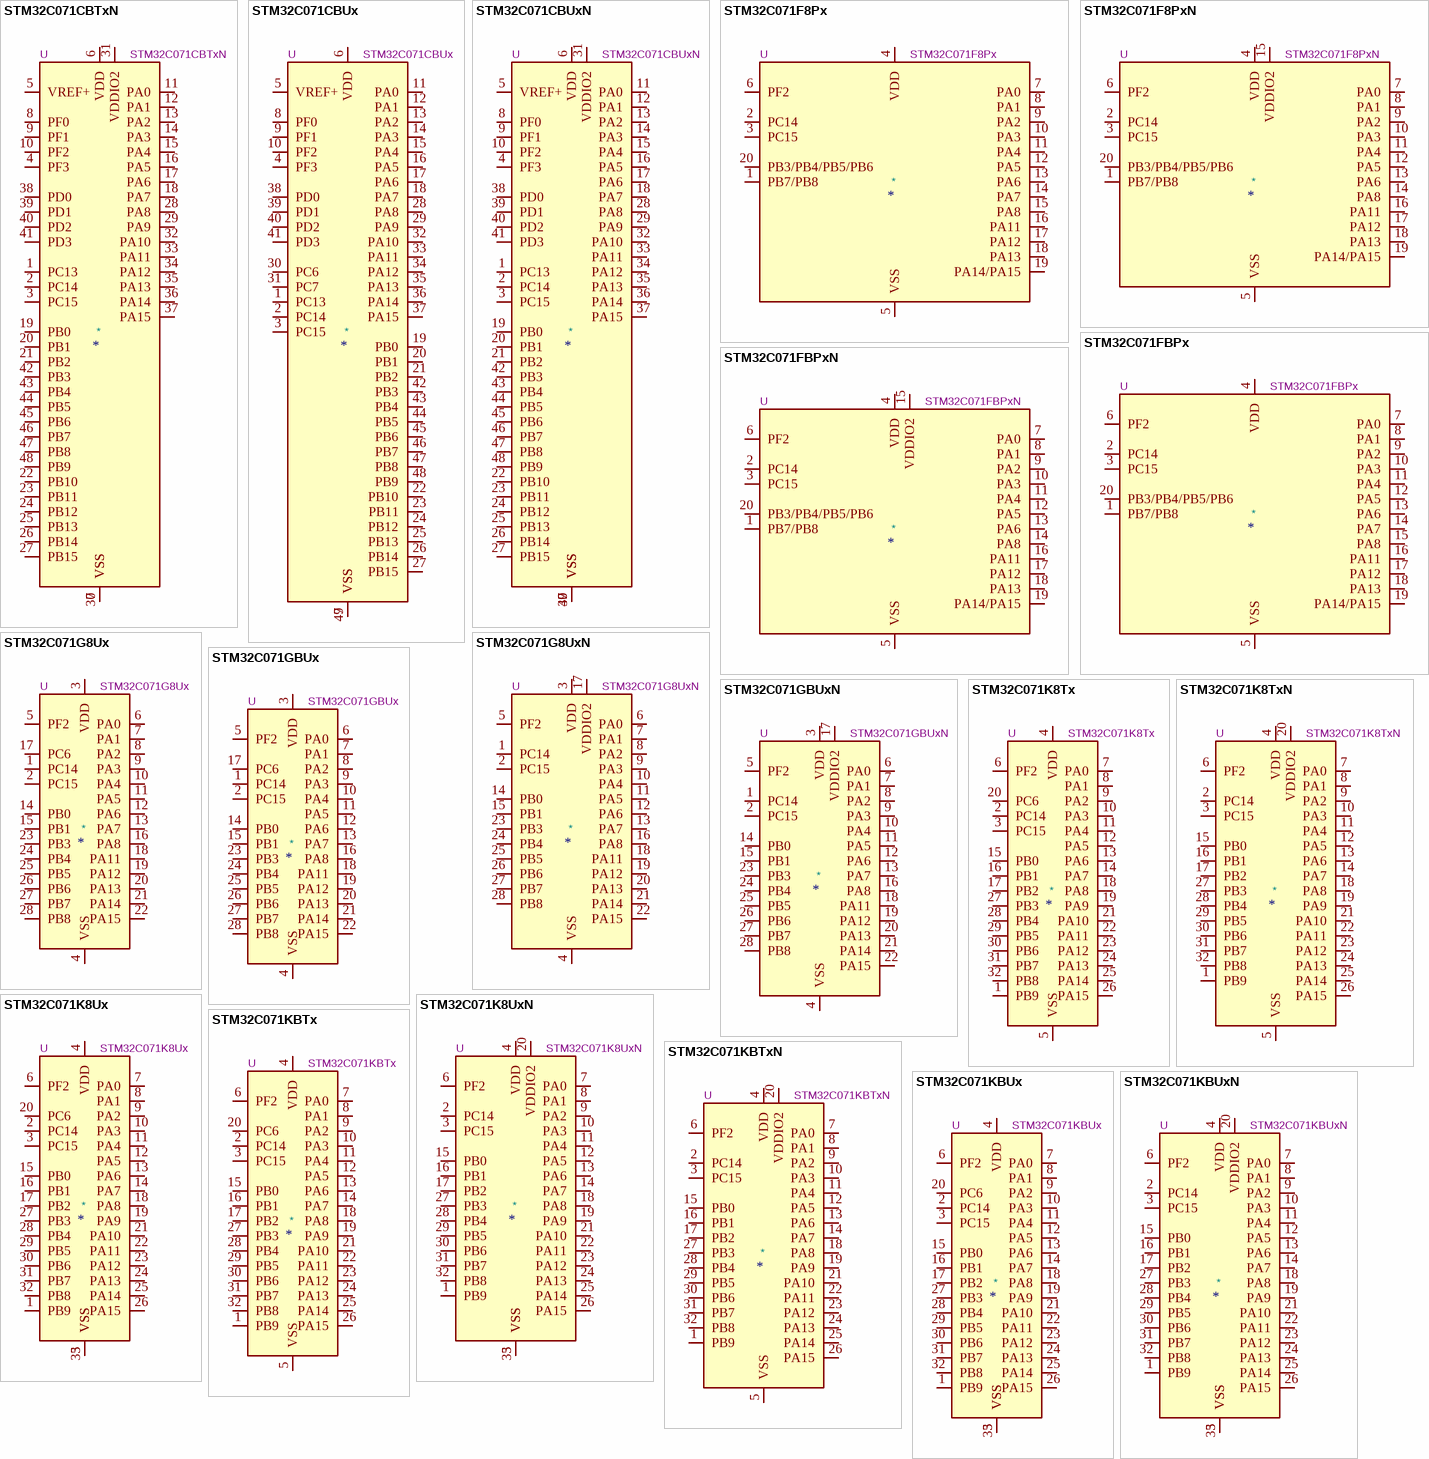
[diagram p2: symbols STM32C071CBTxN to STM32C071KBUxN]

## STM32C071CBTxN
designator *  value STM32C071CBTxN  Reference: U
STMicroelectronics Arm Cortex-M0+ MCU, 128KB flash, 24KB RAM, 43 GPIO, LQFP48_N; ki_keywords: Arm Cortex-M0+ STM32C0 STM32C0x1; ki_fp_filters: LQFP*7x7mm*P0.5mm*; Footprint: Package_QFP:LQFP-48_7x7mm_P0.5mm; Datasheet: https://www.st.com/resource/en/datasheet/stm32c071cb.pdf; Description_: STMicroelectronics Arm Cortex-M0+ MCU, 128KB flash, 24KB RAM, 43 GPIO, LQFP48_N
pins: 1 PC13, 2 PC14, 3 PC15, 4 PF3, 5 VREF+, 6 VDD, 7 VSS, 8 PF0, 9 PF1, 10 PF2, 11 PA0, 12 PA1, 13 PA2, 14 PA3, 15 PA4, 16 PA5, 17 PA6, 18 PA7, 19 PB0, 20 PB1, 21 PB2, 22 PB10, 23 PB11, 24 PB12, 25 PB13, 26 PB14, 27 PB15, 28 PA8, 29 PA9, 30 VSS, 31 VDDIO2, 32 PA10, 33 PA11, 34 PA12, 35 PA13, 36 PA14, 37 PA15, 38 PD0, 39 PD1, 40 PD2, 41 PD3, 42 PB3, 43 PB4, 44 PB5, 45 PB6, 46 PB7, 47 PB8, 48 PB9

## STM32C071CBUx
designator *  value STM32C071CBUx  Reference: U
STMicroelectronics Arm Cortex-M0+ MCU, 128KB flash, 24KB RAM, 45 GPIO, UFQFPN48_GP; ki_keywords: Arm Cortex-M0+ STM32C0 STM32C0x1; ki_fp_filters: QFN*1EP*7x7mm*P0.5mm*; Footprint: Package_DFN_QFN:QFN-48-1EP_7x7mm_P0.5mm_EP5.6x5.6mm; Datasheet: https://www.st.com/resource/en/datasheet/stm32c071cb.pdf; Description_: STMicroelectronics Arm Cortex-M0+ MCU, 128KB flash, 24KB RAM, 45 GPIO, UFQFPN48_GP
pins: 1 PC13, 2 PC14, 3 PC15, 4 PF3, 5 VREF+, 6 VDD, 7 VSS, 8 PF0, 9 PF1, 10 PF2, 11 PA0, 12 PA1, 13 PA2, 14 PA3, 15 PA4, 16 PA5, 17 PA6, 18 PA7, 19 PB0, 20 PB1, 21 PB2, 22 PB10, 23 PB11, 24 PB12, 25 PB13, 26 PB14, 27 PB15, 28 PA8, 29 PA9, 30 PC6, 31 PC7, 32 PA10, 33 PA11, 34 PA12, 35 PA13, 36 PA14, 37 PA15, 38 PD0, 39 PD1, 40 PD2, 41 PD3, 42 PB3, 43 PB4, 44 PB5, 45 PB6, 46 PB7, 47 PB8, 48 PB9, 49 VSS

## STM32C071CBUxN
designator *  value STM32C071CBUxN  Reference: U
STMicroelectronics Arm Cortex-M0+ MCU, 128KB flash, 24KB RAM, 43 GPIO, UFQFPN48_N; ki_keywords: Arm Cortex-M0+ STM32C0 STM32C0x1; ki_fp_filters: QFN*1EP*7x7mm*P0.5mm*; Footprint: Package_DFN_QFN:QFN-48-1EP_7x7mm_P0.5mm_EP5.6x5.6mm; Datasheet: https://www.st.com/resource/en/datasheet/stm32c071cb.pdf; Description_: STMicroelectronics Arm Cortex-M0+ MCU, 128KB flash, 24KB RAM, 43 GPIO, UFQFPN48_N
pins: 1 PC13, 2 PC14, 3 PC15, 4 PF3, 5 VREF+, 6 VDD, 7 VSS, 8 PF0, 9 PF1, 10 PF2, 11 PA0, 12 PA1, 13 PA2, 14 PA3, 15 PA4, 16 PA5, 17 PA6, 18 PA7, 19 PB0, 20 PB1, 21 PB2, 22 PB10, 23 PB11, 24 PB12, 25 PB13, 26 PB14, 27 PB15, 28 PA8, 29 PA9, 30 VSS, 31 VDDIO2, 32 PA10, 33 PA11, 34 PA12, 35 PA13, 36 PA14, 37 PA15, 38 PD0, 39 PD1, 40 PD2, 41 PD3, 42 PB3, 43 PB4, 44 PB5, 45 PB6, 46 PB7, 47 PB8, 48 PB9, 49 VSS

## STM32C071F8Px
designator *  value STM32C071F8Px  Reference: U
STMicroelectronics Arm Cortex-M0+ MCU, 64KB flash, 24KB RAM, 18 GPIO, TSSOP20_GP; ki_keywords: Arm Cortex-M0+ STM32C0 STM32C0x1; ki_fp_filters: TSSOP*4.4x6.5mm*P0.65mm*; Footprint: Package_SO:TSSOP-20_4.4x6.5mm_P0.65mm; Datasheet: https://www.st.com/resource/en/datasheet/stm32c071f8.pdf; Description_: STMicroelectronics Arm Cortex-M0+ MCU, 64KB flash, 24KB RAM, 18 GPIO, TSSOP20_GP
pins: 1 PB7/PB8, 2 PC14, 3 PC15, 4 VDD, 5 VSS, 6 PF2, 7 PA0, 8 PA1, 9 PA2, 10 PA3, 11 PA4, 12 PA5, 13 PA6, 14 PA7, 15 PA8, 16 PA11, 17 PA12, 18 PA13, 19 PA14/PA15, 20 PB3/PB4/PB5/PB6

## STM32C071F8PxN
designator *  value STM32C071F8PxN  Reference: U
STMicroelectronics Arm Cortex-M0+ MCU, 64KB flash, 24KB RAM, 17 GPIO, TSSOP20_N; ki_keywords: Arm Cortex-M0+ STM32C0 STM32C0x1; ki_fp_filters: TSSOP*4.4x6.5mm*P0.65mm*; Footprint: Package_SO:TSSOP-20_4.4x6.5mm_P0.65mm; Datasheet: https://www.st.com/resource/en/datasheet/stm32c071f8.pdf; Description_: STMicroelectronics Arm Cortex-M0+ MCU, 64KB flash, 24KB RAM, 17 GPIO, TSSOP20_N
pins: 1 PB7/PB8, 2 PC14, 3 PC15, 4 VDD, 5 VSS, 6 PF2, 7 PA0, 8 PA1, 9 PA2, 10 PA3, 11 PA4, 12 PA5, 13 PA6, 14 PA8, 15 VDDIO2, 16 PA11, 17 PA12, 18 PA13, 19 PA14/PA15, 20 PB3/PB4/PB5/PB6

## STM32C071FBPx
designator *  value STM32C071FBPx  Reference: U
STMicroelectronics Arm Cortex-M0+ MCU, 128KB flash, 24KB RAM, 18 GPIO, TSSOP20_GP; ki_keywords: Arm Cortex-M0+ STM32C0 STM32C0x1; ki_fp_filters: TSSOP*4.4x6.5mm*P0.65mm*; Footprint: Package_SO:TSSOP-20_4.4x6.5mm_P0.65mm; Datasheet: https://www.st.com/resource/en/datasheet/stm32c071fb.pdf; Description_: STMicroelectronics Arm Cortex-M0+ MCU, 128KB flash, 24KB RAM, 18 GPIO, TSSOP20_GP
pins: 1 PB7/PB8, 2 PC14, 3 PC15, 4 VDD, 5 VSS, 6 PF2, 7 PA0, 8 PA1, 9 PA2, 10 PA3, 11 PA4, 12 PA5, 13 PA6, 14 PA7, 15 PA8, 16 PA11, 17 PA12, 18 PA13, 19 PA14/PA15, 20 PB3/PB4/PB5/PB6

## STM32C071FBPxN
designator *  value STM32C071FBPxN  Reference: U
STMicroelectronics Arm Cortex-M0+ MCU, 128KB flash, 24KB RAM, 17 GPIO, TSSOP20_N; ki_keywords: Arm Cortex-M0+ STM32C0 STM32C0x1; ki_fp_filters: TSSOP*4.4x6.5mm*P0.65mm*; Footprint: Package_SO:TSSOP-20_4.4x6.5mm_P0.65mm; Datasheet: https://www.st.com/resource/en/datasheet/stm32c071fb.pdf; Description_: STMicroelectronics Arm Cortex-M0+ MCU, 128KB flash, 24KB RAM, 17 GPIO, TSSOP20_N
pins: 1 PB7/PB8, 2 PC14, 3 PC15, 4 VDD, 5 VSS, 6 PF2, 7 PA0, 8 PA1, 9 PA2, 10 PA3, 11 PA4, 12 PA5, 13 PA6, 14 PA8, 15 VDDIO2, 16 PA11, 17 PA12, 18 PA13, 19 PA14/PA15, 20 PB3/PB4/PB5/PB6

## STM32C071G8Ux
designator *  value STM32C071G8Ux  Reference: U
STMicroelectronics Arm Cortex-M0+ MCU, 64KB flash, 24KB RAM, 26 GPIO, UFQFPN28_GP; ki_keywords: Arm Cortex-M0+ STM32C0 STM32C0x1; ki_fp_filters: QFN*4x4mm*P0.5mm*; Footprint: Package_DFN_QFN:QFN-28_4x4mm_P0.5mm; Datasheet: https://www.st.com/resource/en/datasheet/stm32c071g8.pdf; Description_: STMicroelectronics Arm Cortex-M0+ MCU, 64KB flash, 24KB RAM, 26 GPIO, UFQFPN28_GP
pins: 1 PC14, 2 PC15, 3 VDD, 4 VSS, 5 PF2, 6 PA0, 7 PA1, 8 PA2, 9 PA3, 10 PA4, 11 PA5, 12 PA6, 13 PA7, 14 PB0, 15 PB1, 16 PA8, 17 PC6, 18 PA11, 19 PA12, 20 PA13, 21 PA14, 22 PA15, 23 PB3, 24 PB4, 25 PB5, 26 PB6, 27 PB7, 28 PB8

## STM32C071G8UxN
designator *  value STM32C071G8UxN  Reference: U
STMicroelectronics Arm Cortex-M0+ MCU, 64KB flash, 24KB RAM, 25 GPIO, UFQFPN28_N; ki_keywords: Arm Cortex-M0+ STM32C0 STM32C0x1; ki_fp_filters: QFN*4x4mm*P0.5mm*; Footprint: Package_DFN_QFN:QFN-28_4x4mm_P0.5mm; Datasheet: https://www.st.com/resource/en/datasheet/stm32c071g8.pdf; Description_: STMicroelectronics Arm Cortex-M0+ MCU, 64KB flash, 24KB RAM, 25 GPIO, UFQFPN28_N
pins: 1 PC14, 2 PC15, 3 VDD, 4 VSS, 5 PF2, 6 PA0, 7 PA1, 8 PA2, 9 PA3, 10 PA4, 11 PA5, 12 PA6, 13 PA7, 14 PB0, 15 PB1, 16 PA8, 17 VDDIO2, 18 PA11, 19 PA12, 20 PA13, 21 PA14, 22 PA15, 23 PB3, 24 PB4, 25 PB5, 26 PB6, 27 PB7, 28 PB8

## STM32C071GBUx
designator *  value STM32C071GBUx  Reference: U
STMicroelectronics Arm Cortex-M0+ MCU, 128KB flash, 24KB RAM, 26 GPIO, UFQFPN28_GP; ki_keywords: Arm Cortex-M0+ STM32C0 STM32C0x1; ki_fp_filters: QFN*4x4mm*P0.5mm*; Footprint: Package_DFN_QFN:QFN-28_4x4mm_P0.5mm; Datasheet: https://www.st.com/resource/en/datasheet/stm32c071gb.pdf; Description_: STMicroelectronics Arm Cortex-M0+ MCU, 128KB flash, 24KB RAM, 26 GPIO, UFQFPN28_GP
pins: 1 PC14, 2 PC15, 3 VDD, 4 VSS, 5 PF2, 6 PA0, 7 PA1, 8 PA2, 9 PA3, 10 PA4, 11 PA5, 12 PA6, 13 PA7, 14 PB0, 15 PB1, 16 PA8, 17 PC6, 18 PA11, 19 PA12, 20 PA13, 21 PA14, 22 PA15, 23 PB3, 24 PB4, 25 PB5, 26 PB6, 27 PB7, 28 PB8

## STM32C071GBUxN
designator *  value STM32C071GBUxN  Reference: U
STMicroelectronics Arm Cortex-M0+ MCU, 128KB flash, 24KB RAM, 25 GPIO, UFQFPN28_N; ki_keywords: Arm Cortex-M0+ STM32C0 STM32C0x1; ki_fp_filters: QFN*4x4mm*P0.5mm*; Footprint: Package_DFN_QFN:QFN-28_4x4mm_P0.5mm; Datasheet: https://www.st.com/resource/en/datasheet/stm32c071gb.pdf; Description_: STMicroelectronics Arm Cortex-M0+ MCU, 128KB flash, 24KB RAM, 25 GPIO, UFQFPN28_N
pins: 1 PC14, 2 PC15, 3 VDD, 4 VSS, 5 PF2, 6 PA0, 7 PA1, 8 PA2, 9 PA3, 10 PA4, 11 PA5, 12 PA6, 13 PA7, 14 PB0, 15 PB1, 16 PA8, 17 VDDIO2, 18 PA11, 19 PA12, 20 PA13, 21 PA14, 22 PA15, 23 PB3, 24 PB4, 25 PB5, 26 PB6, 27 PB7, 28 PB8

## STM32C071K8Tx
designator *  value STM32C071K8Tx  Reference: U
STMicroelectronics Arm Cortex-M0+ MCU, 64KB flash, 24KB RAM, 30 GPIO, LQFP32_GP; ki_keywords: Arm Cortex-M0+ STM32C0 STM32C0x1; ki_fp_filters: LQFP*7x7mm*P0.8mm*; Footprint: Package_QFP:LQFP-32_7x7mm_P0.8mm; Datasheet: https://www.st.com/resource/en/datasheet/stm32c071k8.pdf; Description_: STMicroelectronics Arm Cortex-M0+ MCU, 64KB flash, 24KB RAM, 30 GPIO, LQFP32_GP
pins: 1 PB9, 2 PC14, 3 PC15, 4 VDD, 5 VSS, 6 PF2, 7 PA0, 8 PA1, 9 PA2, 10 PA3, 11 PA4, 12 PA5, 13 PA6, 14 PA7, 15 PB0, 16 PB1, 17 PB2, 18 PA8, 19 PA9, 20 PC6, 21 PA10, 22 PA11, 23 PA12, 24 PA13, 25 PA14, 26 PA15, 27 PB3, 28 PB4, 29 PB5, 30 PB6, 31 PB7, 32 PB8

## STM32C071K8TxN
designator *  value STM32C071K8TxN  Reference: U
STMicroelectronics Arm Cortex-M0+ MCU, 64KB flash, 24KB RAM, 29 GPIO, LQFP32_N; ki_keywords: Arm Cortex-M0+ STM32C0 STM32C0x1; ki_fp_filters: LQFP*7x7mm*P0.8mm*; Footprint: Package_QFP:LQFP-32_7x7mm_P0.8mm; Datasheet: https://www.st.com/resource/en/datasheet/stm32c071k8.pdf; Description_: STMicroelectronics Arm Cortex-M0+ MCU, 64KB flash, 24KB RAM, 29 GPIO, LQFP32_N
pins: 1 PB9, 2 PC14, 3 PC15, 4 VDD, 5 VSS, 6 PF2, 7 PA0, 8 PA1, 9 PA2, 10 PA3, 11 PA4, 12 PA5, 13 PA6, 14 PA7, 15 PB0, 16 PB1, 17 PB2, 18 PA8, 19 PA9, 20 VDDIO2, 21 PA10, 22 PA11, 23 PA12, 24 PA13, 25 PA14, 26 PA15, 27 PB3, 28 PB4, 29 PB5, 30 PB6, 31 PB7, 32 PB8

## STM32C071K8Ux
designator *  value STM32C071K8Ux  Reference: U
STMicroelectronics Arm Cortex-M0+ MCU, 64KB flash, 24KB RAM, 30 GPIO, UFQFPN32_GP; ki_keywords: Arm Cortex-M0+ STM32C0 STM32C0x1; ki_fp_filters: QFN*1EP*5x5mm*P0.5mm*; Footprint: Package_DFN_QFN:QFN-32-1EP_5x5mm_P0.5mm_EP3.45x3.45mm; Datasheet: https://www.st.com/resource/en/datasheet/stm32c071k8.pdf; Description_: STMicroelectronics Arm Cortex-M0+ MCU, 64KB flash, 24KB RAM, 30 GPIO, UFQFPN32_GP
pins: 1 PB9, 2 PC14, 3 PC15, 4 VDD, 5 VSS, 6 PF2, 7 PA0, 8 PA1, 9 PA2, 10 PA3, 11 PA4, 12 PA5, 13 PA6, 14 PA7, 15 PB0, 16 PB1, 17 PB2, 18 PA8, 19 PA9, 20 PC6, 21 PA10, 22 PA11, 23 PA12, 24 PA13, 25 PA14, 26 PA15, 27 PB3, 28 PB4, 29 PB5, 30 PB6, 31 PB7, 32 PB8, 33 VSS

## STM32C071K8UxN
designator *  value STM32C071K8UxN  Reference: U
STMicroelectronics Arm Cortex-M0+ MCU, 64KB flash, 24KB RAM, 29 GPIO, UFQFPN32_N; ki_keywords: Arm Cortex-M0+ STM32C0 STM32C0x1; ki_fp_filters: QFN*1EP*5x5mm*P0.5mm*; Footprint: Package_DFN_QFN:QFN-32-1EP_5x5mm_P0.5mm_EP3.45x3.45mm; Datasheet: https://www.st.com/resource/en/datasheet/stm32c071k8.pdf; Description_: STMicroelectronics Arm Cortex-M0+ MCU, 64KB flash, 24KB RAM, 29 GPIO, UFQFPN32_N
pins: 1 PB9, 2 PC14, 3 PC15, 4 VDD, 5 VSS, 6 PF2, 7 PA0, 8 PA1, 9 PA2, 10 PA3, 11 PA4, 12 PA5, 13 PA6, 14 PA7, 15 PB0, 16 PB1, 17 PB2, 18 PA8, 19 PA9, 20 VDDIO2, 21 PA10, 22 PA11, 23 PA12, 24 PA13, 25 PA14, 26 PA15, 27 PB3, 28 PB4, 29 PB5, 30 PB6, 31 PB7, 32 PB8, 33 VSS

## STM32C071KBTx
designator *  value STM32C071KBTx  Reference: U
STMicroelectronics Arm Cortex-M0+ MCU, 128KB flash, 24KB RAM, 30 GPIO, LQFP32_GP; ki_keywords: Arm Cortex-M0+ STM32C0 STM32C0x1; ki_fp_filters: LQFP*7x7mm*P0.8mm*; Footprint: Package_QFP:LQFP-32_7x7mm_P0.8mm; Datasheet: https://www.st.com/resource/en/datasheet/stm32c071kb.pdf; Description_: STMicroelectronics Arm Cortex-M0+ MCU, 128KB flash, 24KB RAM, 30 GPIO, LQFP32_GP
pins: 1 PB9, 2 PC14, 3 PC15, 4 VDD, 5 VSS, 6 PF2, 7 PA0, 8 PA1, 9 PA2, 10 PA3, 11 PA4, 12 PA5, 13 PA6, 14 PA7, 15 PB0, 16 PB1, 17 PB2, 18 PA8, 19 PA9, 20 PC6, 21 PA10, 22 PA11, 23 PA12, 24 PA13, 25 PA14, 26 PA15, 27 PB3, 28 PB4, 29 PB5, 30 PB6, 31 PB7, 32 PB8

## STM32C071KBTxN
designator *  value STM32C071KBTxN  Reference: U
STMicroelectronics Arm Cortex-M0+ MCU, 128KB flash, 24KB RAM, 29 GPIO, LQFP32_N; ki_keywords: Arm Cortex-M0+ STM32C0 STM32C0x1; ki_fp_filters: LQFP*7x7mm*P0.8mm*; Footprint: Package_QFP:LQFP-32_7x7mm_P0.8mm; Datasheet: https://www.st.com/resource/en/datasheet/stm32c071kb.pdf; Description_: STMicroelectronics Arm Cortex-M0+ MCU, 128KB flash, 24KB RAM, 29 GPIO, LQFP32_N
pins: 1 PB9, 2 PC14, 3 PC15, 4 VDD, 5 VSS, 6 PF2, 7 PA0, 8 PA1, 9 PA2, 10 PA3, 11 PA4, 12 PA5, 13 PA6, 14 PA7, 15 PB0, 16 PB1, 17 PB2, 18 PA8, 19 PA9, 20 VDDIO2, 21 PA10, 22 PA11, 23 PA12, 24 PA13, 25 PA14, 26 PA15, 27 PB3, 28 PB4, 29 PB5, 30 PB6, 31 PB7, 32 PB8

## STM32C071KBUx
designator *  value STM32C071KBUx  Reference: U
STMicroelectronics Arm Cortex-M0+ MCU, 128KB flash, 24KB RAM, 30 GPIO, UFQFPN32_GP; ki_keywords: Arm Cortex-M0+ STM32C0 STM32C0x1; ki_fp_filters: QFN*1EP*5x5mm*P0.5mm*; Footprint: Package_DFN_QFN:QFN-32-1EP_5x5mm_P0.5mm_EP3.45x3.45mm; Datasheet: https://www.st.com/resource/en/datasheet/stm32c071kb.pdf; Description_: STMicroelectronics Arm Cortex-M0+ MCU, 128KB flash, 24KB RAM, 30 GPIO, UFQFPN32_GP
pins: 1 PB9, 2 PC14, 3 PC15, 4 VDD, 5 VSS, 6 PF2, 7 PA0, 8 PA1, 9 PA2, 10 PA3, 11 PA4, 12 PA5, 13 PA6, 14 PA7, 15 PB0, 16 PB1, 17 PB2, 18 PA8, 19 PA9, 20 PC6, 21 PA10, 22 PA11, 23 PA12, 24 PA13, 25 PA14, 26 PA15, 27 PB3, 28 PB4, 29 PB5, 30 PB6, 31 PB7, 32 PB8, 33 VSS

## STM32C071KBUxN
designator *  value STM32C071KBUxN  Reference: U
STMicroelectronics Arm Cortex-M0+ MCU, 128KB flash, 24KB RAM, 29 GPIO, UFQFPN32_N; ki_keywords: Arm Cortex-M0+ STM32C0 STM32C0x1; ki_fp_filters: QFN*1EP*5x5mm*P0.5mm*; Footprint: Package_DFN_QFN:QFN-32-1EP_5x5mm_P0.5mm_EP3.45x3.45mm; Datasheet: https://www.st.com/resource/en/datasheet/stm32c071kb.pdf; Description_: STMicroelectronics Arm Cortex-M0+ MCU, 128KB flash, 24KB RAM, 29 GPIO, UFQFPN32_N
pins: 1 PB9, 2 PC14, 3 PC15, 4 VDD, 5 VSS, 6 PF2, 7 PA0, 8 PA1, 9 PA2, 10 PA3, 11 PA4, 12 PA5, 13 PA6, 14 PA7, 15 PB0, 16 PB1, 17 PB2, 18 PA8, 19 PA9, 20 VDDIO2, 21 PA10, 22 PA11, 23 PA12, 24 PA13, 25 PA14, 26 PA15, 27 PB3, 28 PB4, 29 PB5, 30 PB6, 31 PB7, 32 PB8, 33 VSS

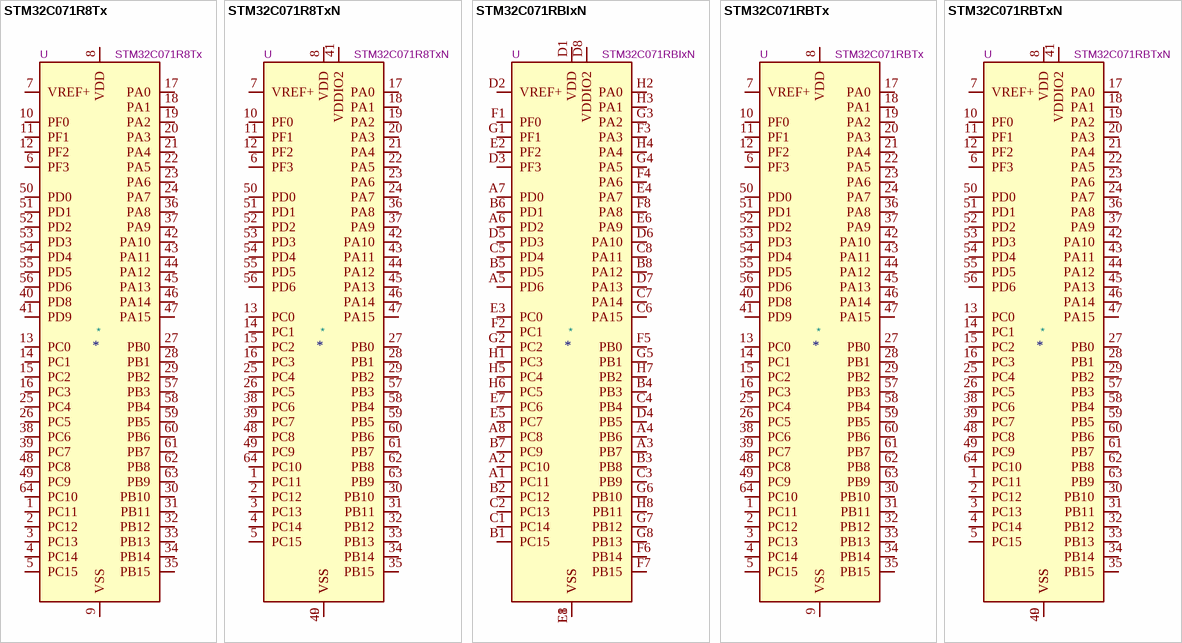
[diagram p3: symbols STM32C071R8Tx to STM32C071RBTxN]

## STM32C071R8Tx
designator *  value STM32C071R8Tx  Reference: U
STMicroelectronics Arm Cortex-M0+ MCU, 64KB flash, 24KB RAM, 61 GPIO, LQFP64_GP; ki_keywords: Arm Cortex-M0+ STM32C0 STM32C0x1; ki_fp_filters: LQFP*10x10mm*P0.5mm*; Footprint: Package_QFP:LQFP-64_10x10mm_P0.5mm; Datasheet: https://www.st.com/resource/en/datasheet/stm32c071r8.pdf; Description_: STMicroelectronics Arm Cortex-M0+ MCU, 64KB flash, 24KB RAM, 61 GPIO, LQFP64_GP
pins: 1 PC11, 2 PC12, 3 PC13, 4 PC14, 5 PC15, 6 PF3, 7 VREF+, 8 VDD, 9 VSS, 10 PF0, 11 PF1, 12 PF2, 13 PC0, 14 PC1, 15 PC2, 16 PC3, 17 PA0, 18 PA1, 19 PA2, 20 PA3, 21 PA4, 22 PA5, 23 PA6, 24 PA7, 25 PC4, 26 PC5, 27 PB0, 28 PB1, 29 PB2, 30 PB10, 31 PB11, 32 PB12, 33 PB13, 34 PB14, 35 PB15, 36 PA8, 37 PA9, 38 PC6, 39 PC7, 40 PD8, 41 PD9, 42 PA10, 43 PA11, 44 PA12, 45 PA13, 46 PA14, 47 PA15, 48 PC8, 49 PC9, 50 PD0, 51 PD1, 52 PD2, 53 PD3, 54 PD4, 55 PD5, 56 PD6, 57 PB3, 58 PB4, 59 PB5, 60 PB6, 61 PB7, 62 PB8, 63 PB9, 64 PC10

## STM32C071R8TxN
designator *  value STM32C071R8TxN  Reference: U
STMicroelectronics Arm Cortex-M0+ MCU, 64KB flash, 24KB RAM, 59 GPIO, LQFP64_N; ki_keywords: Arm Cortex-M0+ STM32C0 STM32C0x1; ki_fp_filters: LQFP*10x10mm*P0.5mm*; Footprint: Package_QFP:LQFP-64_10x10mm_P0.5mm; Datasheet: https://www.st.com/resource/en/datasheet/stm32c071r8.pdf; Description_: STMicroelectronics Arm Cortex-M0+ MCU, 64KB flash, 24KB RAM, 59 GPIO, LQFP64_N
pins: 1 PC11, 2 PC12, 3 PC13, 4 PC14, 5 PC15, 6 PF3, 7 VREF+, 8 VDD, 9 VSS, 10 PF0, 11 PF1, 12 PF2, 13 PC0, 14 PC1, 15 PC2, 16 PC3, 17 PA0, 18 PA1, 19 PA2, 20 PA3, 21 PA4, 22 PA5, 23 PA6, 24 PA7, 25 PC4, 26 PC5, 27 PB0, 28 PB1, 29 PB2, 30 PB10, 31 PB11, 32 PB12, 33 PB13, 34 PB14, 35 PB15, 36 PA8, 37 PA9, 38 PC6, 39 PC7, 40 VSS, 41 VDDIO2, 42 PA10, 43 PA11, 44 PA12, 45 PA13, 46 PA14, 47 PA15, 48 PC8, 49 PC9, 50 PD0, 51 PD1, 52 PD2, 53 PD3, 54 PD4, 55 PD5, 56 PD6, 57 PB3, 58 PB4, 59 PB5, 60 PB6, 61 PB7, 62 PB8, 63 PB9, 64 PC10

## STM32C071RBIxN
designator *  value STM32C071RBIxN  Reference: U
STMicroelectronics Arm Cortex-M0+ MCU, 128KB flash, 24KB RAM, 59 GPIO, UFBGA64_N; ki_keywords: Arm Cortex-M0+ STM32C0 STM32C0x1; ki_fp_filters: UFBGA*5x5mm*Layout8x8*P0.5mm*; Footprint: Package_BGA:UFBGA-64_5x5mm_Layout8x8_P0.5mm; Datasheet: https://www.st.com/resource/en/datasheet/stm32c071rb.pdf; Description_: STMicroelectronics Arm Cortex-M0+ MCU, 128KB flash, 24KB RAM, 59 GPIO, UFBGA64_N
pins: A1 PC11, A2 PC10, A3 PB7, A4 PB6, A5 PD6, A6 PD2, A7 PD0, A8 PC8, B1 PC15, B2 PC12, B3 PB8, B4 PB3, B5 PD5, B6 PD1, B7 PC9, B8 PA12, C1 PC14, C2 PC13, C3 PB9, C4 PB4, C5 PD4, C6 PA15, C7 PA14, C8 PA11, D1 VDD, D2 VREF+, D3 PF3, D4 PB5, D5 PD3, D6 PA10, D7 PA13, D8 VDDIO2, E1 VSS, E2 PF2, E3 PC0, E4 PA7, E5 PC7, E6 PA9, E7 PC6, E8 VSS, F1 PF0, F2 PC1, F3 PA3, F4 PA6, F5 PB0, F6 PB14, F7 PB15, F8 PA8, G1 PF1, G2 PC2, G3 PA2, G4 PA5, G5 PB1, G6 PB10, G7 PB12, G8 PB13, H1 PC3, H2 PA0, H3 PA1, H4 PA4, H5 PC4, H6 PC5, H7 PB2, H8 PB11

## STM32C071RBTx
designator *  value STM32C071RBTx  Reference: U
STMicroelectronics Arm Cortex-M0+ MCU, 128KB flash, 24KB RAM, 61 GPIO, LQFP64_GP; ki_keywords: Arm Cortex-M0+ STM32C0 STM32C0x1; ki_fp_filters: LQFP*10x10mm*P0.5mm*; Footprint: Package_QFP:LQFP-64_10x10mm_P0.5mm; Datasheet: https://www.st.com/resource/en/datasheet/stm32c071rb.pdf; Description_: STMicroelectronics Arm Cortex-M0+ MCU, 128KB flash, 24KB RAM, 61 GPIO, LQFP64_GP
pins: 1 PC11, 2 PC12, 3 PC13, 4 PC14, 5 PC15, 6 PF3, 7 VREF+, 8 VDD, 9 VSS, 10 PF0, 11 PF1, 12 PF2, 13 PC0, 14 PC1, 15 PC2, 16 PC3, 17 PA0, 18 PA1, 19 PA2, 20 PA3, 21 PA4, 22 PA5, 23 PA6, 24 PA7, 25 PC4, 26 PC5, 27 PB0, 28 PB1, 29 PB2, 30 PB10, 31 PB11, 32 PB12, 33 PB13, 34 PB14, 35 PB15, 36 PA8, 37 PA9, 38 PC6, 39 PC7, 40 PD8, 41 PD9, 42 PA10, 43 PA11, 44 PA12, 45 PA13, 46 PA14, 47 PA15, 48 PC8, 49 PC9, 50 PD0, 51 PD1, 52 PD2, 53 PD3, 54 PD4, 55 PD5, 56 PD6, 57 PB3, 58 PB4, 59 PB5, 60 PB6, 61 PB7, 62 PB8, 63 PB9, 64 PC10

## STM32C071RBTxN
designator *  value STM32C071RBTxN  Reference: U
STMicroelectronics Arm Cortex-M0+ MCU, 128KB flash, 24KB RAM, 59 GPIO, LQFP64_N; ki_keywords: Arm Cortex-M0+ STM32C0 STM32C0x1; ki_fp_filters: LQFP*10x10mm*P0.5mm*; Footprint: Package_QFP:LQFP-64_10x10mm_P0.5mm; Datasheet: https://www.st.com/resource/en/datasheet/stm32c071rb.pdf; Description_: STMicroelectronics Arm Cortex-M0+ MCU, 128KB flash, 24KB RAM, 59 GPIO, LQFP64_N
pins: 1 PC11, 2 PC12, 3 PC13, 4 PC14, 5 PC15, 6 PF3, 7 VREF+, 8 VDD, 9 VSS, 10 PF0, 11 PF1, 12 PF2, 13 PC0, 14 PC1, 15 PC2, 16 PC3, 17 PA0, 18 PA1, 19 PA2, 20 PA3, 21 PA4, 22 PA5, 23 PA6, 24 PA7, 25 PC4, 26 PC5, 27 PB0, 28 PB1, 29 PB2, 30 PB10, 31 PB11, 32 PB12, 33 PB13, 34 PB14, 35 PB15, 36 PA8, 37 PA9, 38 PC6, 39 PC7, 40 VSS, 41 VDDIO2, 42 PA10, 43 PA11, 44 PA12, 45 PA13, 46 PA14, 47 PA15, 48 PC8, 49 PC9, 50 PD0, 51 PD1, 52 PD2, 53 PD3, 54 PD4, 55 PD5, 56 PD6, 57 PB3, 58 PB4, 59 PB5, 60 PB6, 61 PB7, 62 PB8, 63 PB9, 64 PC10